# EAGLE library part LPC546XX (library Transputer)
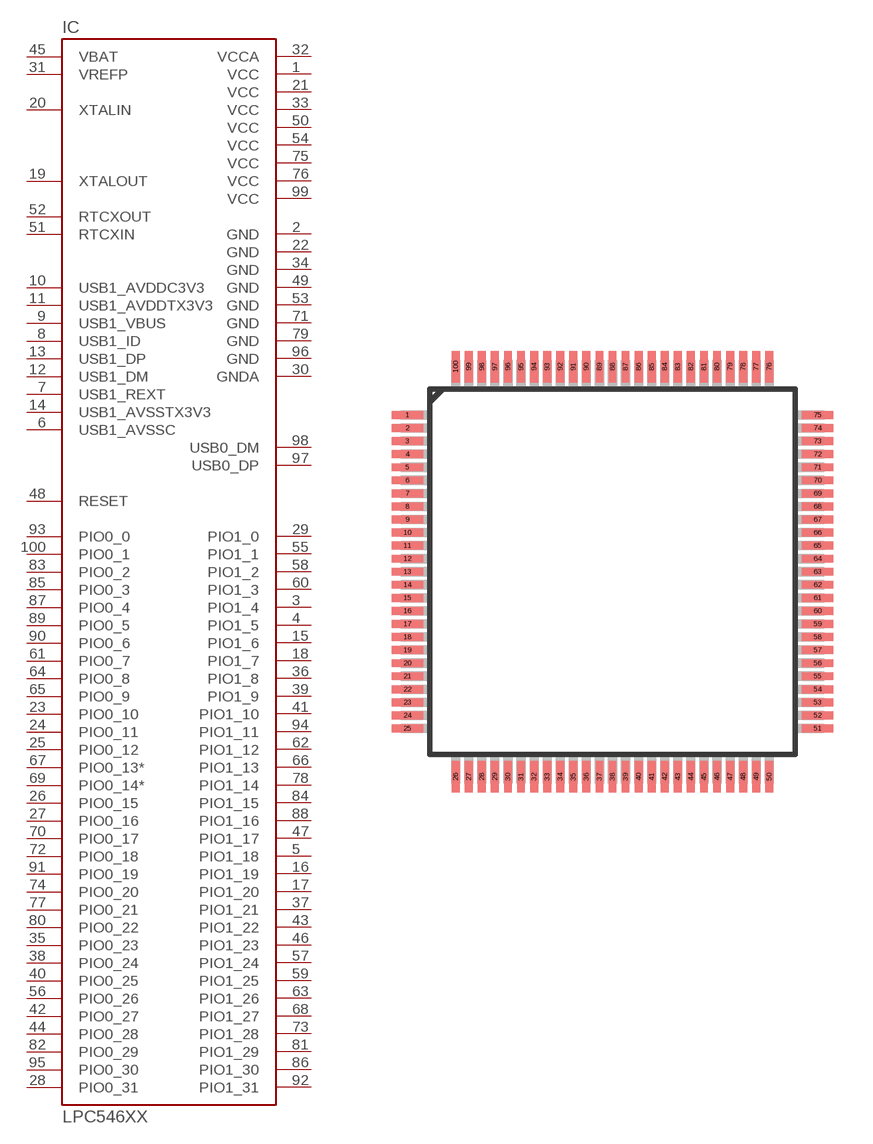
[diagram p17: symbol with the pads of LQFP100; footprint LQFP100]

Designator prefix IC

## LPC546XX  [LQFP100]
1  VCC  pwr
2  GND  pwr
3  PIO1_4  hiz
4  PIO1_5  hiz
5  PIO1_18  hiz
6  USB1_AVSSC  hiz
7  USB1_REXT  hiz
8  USB1_ID  hiz
9  USB1_VBUS  hiz
10  USB1_AVDDC3V3  hiz
11  USB1_AVDDTX3V3  hiz
12  USB1_DM  hiz
13  USB1_DP  hiz
14  USB1_AVSSTX3V3  hiz
15  PIO1_6  hiz
16  PIO1_19  hiz
17  PIO1_20  hiz
18  PIO1_7  hiz
19  XTALOUT  hiz
20  XTALIN  hiz
21  VCC  pwr
22  GND  pwr
23  PIO0_10  hiz
24  PIO0_11  hiz
25  PIO0_12  hiz
26  PIO0_15  hiz
27  PIO0_16  hiz
28  PIO0_31  hiz
29  PIO1_0  hiz
30  GNDA  pwr
31  VREFP  hiz
32  VCCA  pwr
33  VCC  pwr
34  GND  pwr
35  PIO0_23  hiz
36  PIO1_8  hiz
37  PIO1_21  hiz
38  PIO0_24  hiz
39  PIO1_9  hiz
40  PIO0_25  hiz
41  PIO1_10  hiz
42  PIO0_27  hiz
43  PIO1_22  hiz
44  PIO0_28  hiz
45  VBAT  hiz
46  PIO1_23  hiz
47  PIO1_17  hiz
48  RESET  hiz
49  GND  pwr
50  VCC  pwr
51  RTCXIN  hiz
52  RTCXOUT  hiz
53  GND  pwr
54  VCC  pwr
55  PIO1_1  hiz
56  PIO0_26  hiz
57  PIO1_24  hiz
58  PIO1_2  hiz
59  PIO1_25  hiz
60  PIO1_3  hiz
61  PIO0_7  hiz
62  PIO1_12  hiz
63  PIO1_26  hiz
64  PIO0_8  hiz
65  PIO0_9  hiz
66  PIO1_13  hiz
67  PIO0_13*  hiz
68  PIO1_27  hiz
69  PIO0_14*  hiz
70  PIO0_17  hiz
71  GND  pwr
72  PIO0_18  hiz
73  PIO1_28  hiz
74  PIO0_20  hiz
75  VCC  pwr
76  VCC  pwr
77  PIO0_21  hiz
78  PIO1_14  hiz
79  GND  pwr
80  PIO0_22  hiz
81  PIO1_29  hiz
82  PIO0_29  hiz
83  PIO0_2  hiz
84  PIO1_15  hiz
85  PIO0_3  hiz
86  PIO1_30  hiz
87  PIO0_4  hiz
88  PIO1_16  hiz
89  PIO0_5  hiz
90  PIO0_6  hiz
91  PIO0_19  hiz
92  PIO1_31  hiz
93  PIO0_0  hiz
94  PIO1_11  hiz
95  PIO0_30  hiz
96  GND  pwr
97  USB0_DP  hiz
98  USB0_DM  hiz
99  VCC  pwr
100  PIO0_1  hiz

## Footprint LQFP100 (pad centres in mm)
smd 1.2 x 0.3: 1 -7.85,6; 2 -7.85,5.5; 3 -7.85,5; 4 -7.85,4.5; 5 -7.85,4; 6 -7.85,3.5; 7 -7.85,3; 8 -7.85,2.5; 9 -7.85,2; 10 -7.85,1.5; 11 -7.85,1; 12 -7.85,0.5; 13 -7.85,0; 14 -7.85,-0.5; 15 -7.85,-1; 16 -7.85,-1.5; 17 -7.85,-2; 18 -7.85,-2.5; 19 -7.85,-3; 20 -7.85,-3.5; 21 -7.85,-4; 22 -7.85,-4.5; 23 -7.85,-5; 24 -7.85,-5.5; 25 -7.85,-6; 51 7.85,-6; 52 7.85,-5.5; 53 7.85,-5; 54 7.85,-4.5; 55 7.85,-4; 56 7.85,-3.5; 57 7.85,-3; 58 7.85,-2.5; 59 7.85,-2; 60 7.85,-1.5; 61 7.85,-1; 62 7.85,-0.5; 63 7.85,0; 64 7.85,0.5; 65 7.85,1; 66 7.85,1.5; 67 7.85,2; 68 7.85,2.5; 69 7.85,3; 70 7.85,3.5; 71 7.85,4; 72 7.85,4.5; 73 7.85,5; 74 7.85,5.5; 75 7.85,6
smd 0.3 x 1.2: 26 -6,-7.85; 27 -5.5,-7.85; 28 -5,-7.85; 29 -4.5,-7.85; 30 -4,-7.85; 31 -3.5,-7.85; 32 -3,-7.85; 33 -2.5,-7.85; 34 -2,-7.85; 35 -1.5,-7.85; 36 -1,-7.85; 37 -0.5,-7.85; 38 0,-7.85; 39 0.5,-7.85; 40 1,-7.85; 41 1.5,-7.85; 42 2,-7.85; 43 2.5,-7.85; 44 3,-7.85; 45 3.5,-7.85; 46 4,-7.85; 47 4.5,-7.85; 48 5,-7.85; 49 5.5,-7.85; 50 6,-7.85; 76 6,7.85; 77 5.5,7.85; 78 5,7.85; 79 4.5,7.85; 80 4,7.85; 81 3.5,7.85; 82 3,7.85; 83 2.5,7.85; 84 2,7.85; 85 1.5,7.85; 86 1,7.85; 87 0.5,7.85; 88 0,7.85; 89 -0.5,7.85; 90 -1,7.85; 91 -1.5,7.85; 92 -2,7.85; 93 -2.5,7.85; 94 -3,7.85; 95 -3.5,7.85; 96 -4,7.85; 97 -4.5,7.85; 98 -5,7.85; 99 -5.5,7.85; 100 -6,7.85